# Altium footprint library SOT-23-5.PcbLib: 1 footprints
Each footprint in its own frame and in the unit in brackets; x right, y up, seen from the top. Pads: shape width x height; smd on the part's side, far side on the other; paste and mask are expansions set on the pad; w line width, h text height; cw(c..) or ccw(c..) is an arc to the next point about the centre after c.
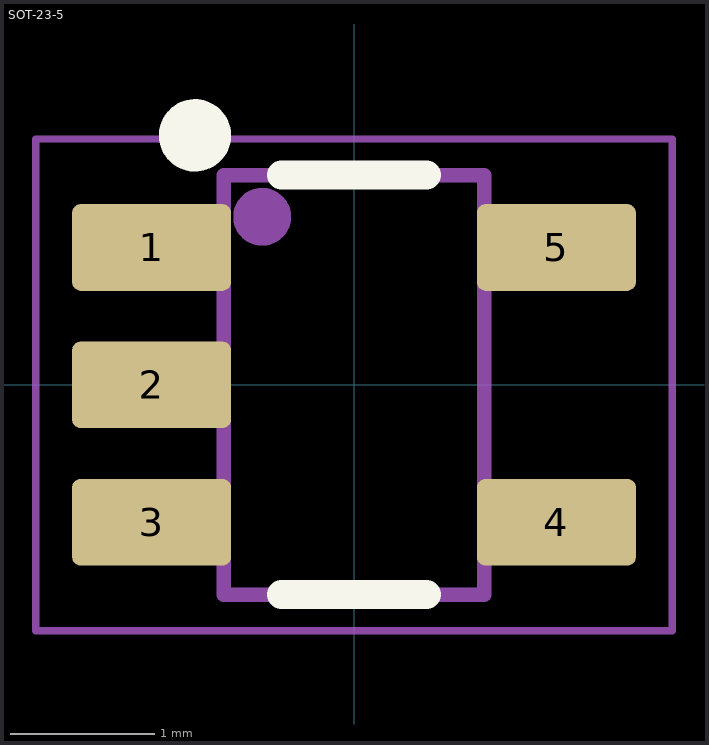
[diagram p0: the footprint, top view; thin cyan lines are the x and y axes]

## SOT-23-5 [mm]
height 1.45
pads (5):
  rrect20% 1.1x0.6 smd: 1(-1.4,0.95) 2(-1.4,0) 3(-1.4,-0.95) 4(1.4,-0.95) 5(1.4,0.95)
Top Overlay:
  circle w0.25: c-1.1,1.725 r0.125
  lines w0.2: -0.5,-1.45 0.5,-1.45 ; -0.5,1.45 0.5,1.45
Top Assembly:
  circle w0.2: c-0.635,1.162 r0.1
  lines w0.1: -0.9,-1.45 0.9,-1.45 0.9,1.45 -0.9,1.45 -0.9,-1.45
Top Courtyard:
  lines w0.05: -2.2,-1.7 -2.2,1.7 2.2,1.7 2.2,-1.7 -2.2,-1.7
Top Designator:
  text ".Designator" at 0.2,-2.999 h0.6
3D body "sot-23-5-microchip.STEP": height 1.19, standoff 0, extent -1.36,-1.45 1.361,1.45